# EAGLE library part LMC662 (library BME_Components)
CMOS Dual Operational Amplifier, 8-pin MDIP, Pb-Free
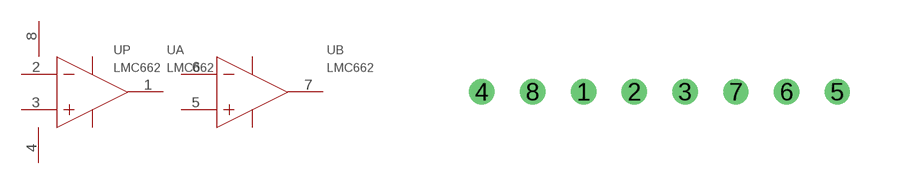
[diagram p12: symbol with the pads of LMC662_PDIP-8; footprint LMC662_PDIP-8]

Designator prefix U; gates P=LMC662_P A=LMC662_A B=LMC662_B

## LMC662LMC662_LMC662_PDIP-8 (CODE_JEDEC: MS-001-BA; COMPONENTLINK1DESCRIPTION: Datasheet URL; COMPTYPE: Amplifiers; MANUFACTURER: Texas Instruments; PACKAGEDESCRIPTION: MDIP, .365 x .250 x .130in, 8 Lead, .100in Pitch; PACKAGETOPMARKING: NSUZXYTTE#*LMC*662CN; PACKAGE_REFERENCE: P0008A; PARTID: 1; PINCOUNT: 8; POWERWISE: N; ROHS: Y)  [LMC662_PDIP-8]
1  A:OUTA  out
2  A:INA-  in
3  A:INA+  in
4  P:V-  pwr
5  B:INB+  in
6  B:INB-  in
7  B:OUTB  out
8  P:V+  pwr

## Footprint LMC662_PDIP-8 (pad centres in mm)
drill 0.127 pad 0.254 round: 1 2.54,0; 2 3.81,0; 3 5.08,0; 4 0,0; 5 8.89,0; 6 7.62,0; 7 6.35,0; 8 1.27,0